# EAGLE library part 62000611622 (library Wurth_Connectors_WR-WTB)
WR-WTB 2.00 mm Male Vertical Shrouded Header KIND PROPERTIES: Pitch 2 mm Gender Male Type Vertical MATERIAL PROPERTIES: Insulator Material LCP Insulator Flammability Rating UL94 V-0 Insulator Color Beige; White Contact Material Copper Alloy Contact Plating Tin Contact Type Stamped GENERAL INFORMATION Operating Temperature -25 up to +85 °C IR 2 A Working Voltage 125 V (AC) Withstanding Voltage 800 V (AC) Contact Resistance 20 mΩ RISO 1000 MΩ CERTIFICATION UL Approval E323964 PACKAGING PROPERTIES Packaging Bag <https://www.we-online.com/catalog/media/o33351v209%20Family_WR-WTB_6200xx11622.jpg> Details see: www.we-online.com/catalog/WTB_2_00_MALE_VERTICAL_SHROUDED_HEADER_6200XX11622 <www.we-online.com/catalog/WTB_2_00_MALE_VERTICAL_SHROUDED_HEADER_6200XX11622/?utm_source=eagle_model&utm_medium=description_link&utm_campaign=eisos_eagle> Updated by Ella Wu 2022-07-27 2022 (C) Würth Elektronik
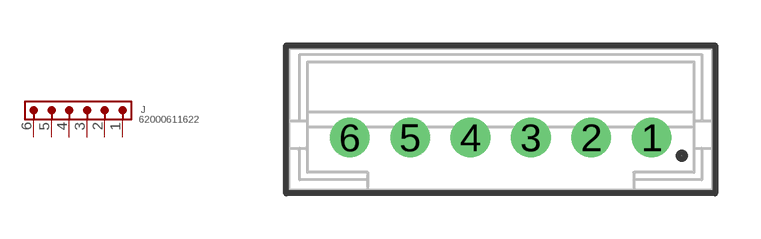
[diagram p94: symbol with the pads of 62000611622; footprint 62000611622]

Designator prefix J

## 62000611622 (CONTACT-RESISTANCE: 20mOhm; DATASHEET-URL: https://www.we-online.com/redexpert/spec/62000611622?ae; GENDER: Male; IR: 2A; L: 14mm; MOUNT: THT; PACKAGING: Bag; PART-NUMBER: 62000611622; PCB-CABLE-PANEL: PCB; PINS: 6; PITCH: 2mm; TYPE: Vertical; VALUE: 62000611622; WORKING-VOLTAGE: 125V(AC))  [62000611622]
1  1  pas
2  2  pas
3  3  pas
4  4  pas
5  5  pas
6  6  pas

## Footprint 62000611622 (pad centres in mm)
WR-WTB 2.00 mm Male Vertical Shrouded Header,6 Pins
drill 0.8: 1 5,-0.6; 2 3,-0.6; 3 1,-0.6; 4 -1,-0.6; 5 -3,-0.6; 6 -5,-0.6